# EAGLE library part DC-MOTOR-CONNECTOR (library MrRobotics-Connectors)
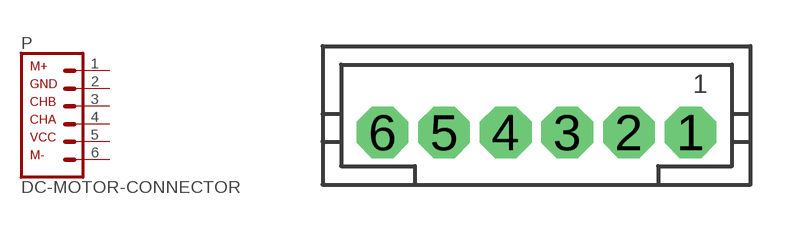
[diagram p2: symbol with the pads of JST-PH6; footprint JST-PH6]

Designator prefix P

## DC-MOTOR-CONNECTOR  [JST-PH6]
1  1-M-  pas
2  2-M+  pas
3  3-VCC  pas
4  4-GND  pas
5  5-CHA  pas
6  6-CHB  pas

## Footprint JST-PH6 (pad centres in mm)
drill 0.813 pad 1.676 octagon: 1 5,0; 2 3,0; 3 1,0; 4 -1,0; 5 -3,0; 6 -5,0